# Altium schematic symbol library WCH-CH334.SchLib: 9 symbols
Pins are listed as number, name and electrical type; pins without a type are passive.

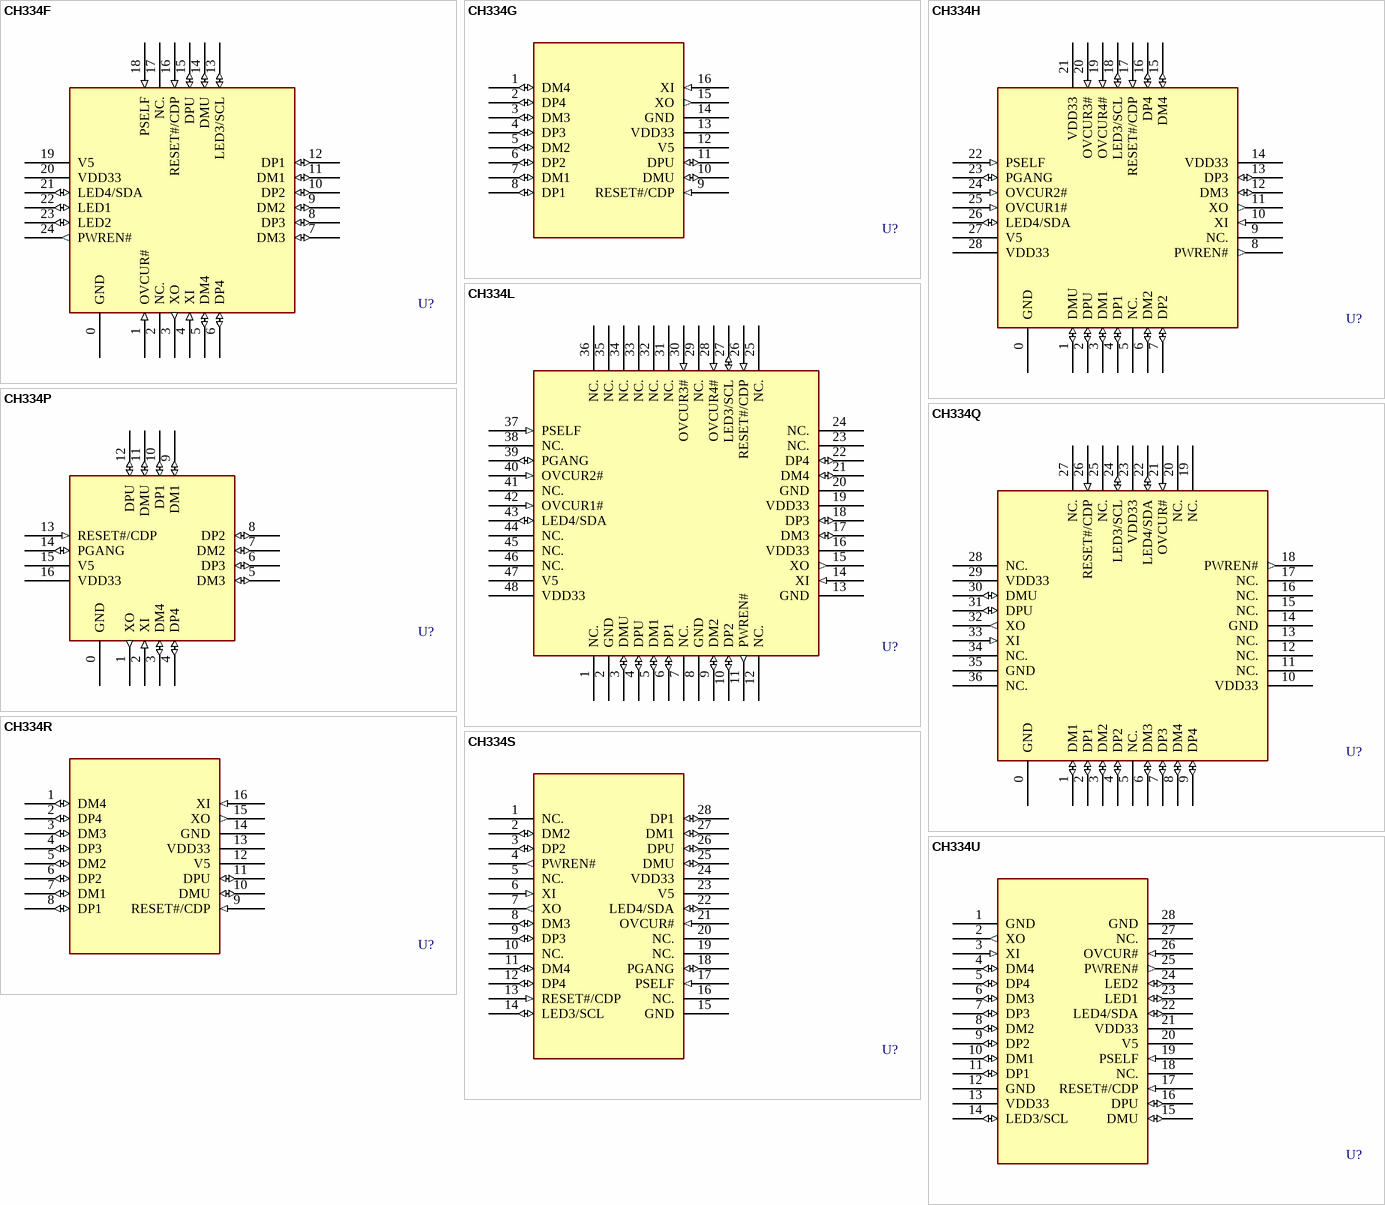
[diagram p0: symbols CH334F to CH334U]

## CH334F
designator U?
pins: 0 GND (power), 1 OVCUR# (in), 2 NC., 3 XO (out), 4 XI (in), 5 DM4 (io), 6 DP4 (io), 7 DM3 (io), 8 DP3 (io), 9 DM2 (io), 10 DP2 (io), 11 DM1 (io), 12 DP1 (io), 13 LED3/SCL (io), 14 DMU (io), 15 DPU (io), 16 RESET#/CDP (in), 17 NC., 18 PSELF (in), 19 V5 (power), 20 VDD33 (power), 21 LED4/SDA (io), 22 LED1 (io), 23 LED2 (io), 24 PWREN# (out)
2 alternate drawings of the same symbol

## CH334G
designator U?
pins: 1 DM4 (io), 2 DP4 (io), 3 DM3 (io), 4 DP3 (io), 5 DM2 (io), 6 DP2 (io), 7 DM1 (io), 8 DP1 (io), 9 RESET#/CDP (in), 10 DMU (io), 11 DPU (io), 12 V5 (power), 13 VDD33 (power), 14 GND (power), 15 XO (out), 16 XI (in)
2 alternate drawings of the same symbol

## CH334H
designator U?
pins: 0 GND (power), 1 DMU (io), 2 DPU (io), 3 DM1 (io), 4 DP1 (io), 5 NC., 6 DM2 (io), 7 DP2 (io), 8 PWREN# (out), 9 NC., 10 XI (in), 11 XO (out), 12 DM3 (io), 13 DP3 (io), 14 VDD33 (power), 15 DM4 (io), 16 DP4 (io), 17 RESET#/CDP (in), 18 LED3/SCL (io), 19 OVCUR4# (in), 20 OVCUR3# (in), 21 VDD33 (power), 22 PSELF (in), 23 PGANG (io), 24 OVCUR2# (in), 25 OVCUR1# (in), 26 LED4/SDA (io), 27 V5 (power), 28 VDD33 (power)
2 alternate drawings of the same symbol

## CH334L
designator U?
pins: 1 NC., 2 GND (power), 3 DMU (io), 4 DPU (io), 5 DM1 (io), 6 DP1 (io), 7 NC., 8 GND (power), 9 DM2 (io), 10 DP2 (io), 11 PWREN# (out), 12 NC., 13 GND (power), 14 XI (in), 15 XO (out), 16 VDD33 (power), 17 DM3 (io), 18 DP3 (io), 19 VDD33 (power), 20 GND (power), 21 DM4 (io), 22 DP4 (io), 23 NC., 24 NC., 25 NC., 26 RESET#/CDP (in), 27 LED3/SCL (io), 28 OVCUR4# (in), 29 NC., 30 OVCUR3# (in), 31 NC., 32 NC., 33 NC., 34 NC., 35 NC., 36 NC., 37 PSELF (in), 38 NC., 39 PGANG (io), 40 OVCUR2# (in), 41 NC., 42 OVCUR1# (in), 43 LED4/SDA (io), 44 NC., 45 NC., 46 NC., 47 V5 (power), 48 VDD33 (power)
2 alternate drawings of the same symbol

## CH334P
designator U?
pins: 0 GND (power), 1 XO (out), 2 XI (in), 3 DM4 (io), 4 DP4 (io), 5 DM3 (io), 6 DP3 (io), 7 DM2 (io), 8 DP2 (io), 9 DM1 (io), 10 DP1 (io), 11 DMU (io), 12 DPU (io), 13 RESET#/CDP (in), 14 PGANG (io), 15 V5 (power), 16 VDD33 (power)
2 alternate drawings of the same symbol

## CH334Q
designator U?
pins: 0 GND (power), 1 DM1 (io), 2 DP1 (io), 3 DM2 (io), 4 DP2 (io), 5 NC., 6 DM3 (io), 7 DP3 (io), 8 DM4 (io), 9 DP4 (io), 10 VDD33 (power), 11 NC., 12 NC., 13 NC., 14 GND (power), 15 NC., 16 NC., 17 NC., 18 PWREN# (out), 19 NC., 20 NC., 21 OVCUR# (in), 22 LED4/SDA (io), 23 VDD33 (power), 24 LED3/SCL (io), 25 NC., 26 RESET#/CDP (in), 27 NC., 28 NC., 29 VDD33 (power), 30 DMU (io), 31 DPU (io), 32 XO (out), 33 XI (in), 34 NC., 35 GND (power), 36 NC.
2 alternate drawings of the same symbol

## CH334R
designator U?
pins: 1 DM4 (io), 2 DP4 (io), 3 DM3 (io), 4 DP3 (io), 5 DM2 (io), 6 DP2 (io), 7 DM1 (io), 8 DP1 (io), 9 RESET#/CDP (in), 10 DMU (io), 11 DPU (io), 12 V5 (power), 13 VDD33 (power), 14 GND (power), 15 XO (out), 16 XI (in)
2 alternate drawings of the same symbol

## CH334S
designator U?
pins: 1 NC., 2 DM2 (io), 3 DP2 (io), 4 PWREN# (out), 5 NC., 6 XI (in), 7 XO (out), 8 DM3 (io), 9 DP3 (io), 10 NC., 11 DM4 (io), 12 DP4 (io), 13 RESET#/CDP (in), 14 LED3/SCL (io), 15 GND (power), 16 NC., 17 PSELF (in), 18 PGANG (io), 19 NC., 20 NC., 21 OVCUR# (in), 22 LED4/SDA (io), 23 V5 (power), 24 VDD33 (power), 25 DMU (io), 26 DPU (io), 27 DM1 (io), 28 DP1 (io)
2 alternate drawings of the same symbol

## CH334U
designator U?
pins: 1 GND (power), 2 XO (out), 3 XI (in), 4 DM4 (io), 5 DP4 (io), 6 DM3 (io), 7 DP3 (io), 8 DM2 (io), 9 DP2 (io), 10 DM1 (io), 11 DP1 (io), 12 GND (power), 13 VDD33 (power), 14 LED3/SCL (io), 15 DMU (io), 16 DPU (io), 17 RESET#/CDP (in), 18 NC., 19 PSELF (in), 20 V5 (power), 21 VDD33 (power), 22 LED4/SDA (io), 23 LED1 (io), 24 LED2 (io), 25 PWREN# (out), 26 OVCUR# (in), 27 NC., 28 GND (power)
2 alternate drawings of the same symbol